# Altium footprint library MODULE.PCBLIB: 102 footprints (part 7 of 7)
Each footprint in its own frame and in the unit in brackets; x right, y up, seen from the top. Pads: shape width x height; smd on the part's side, far side on the other; paste and mask are expansions set on the pad; w line width, h text height; cw(c..) or ccw(c..) is an arc to the next point about the centre after c.
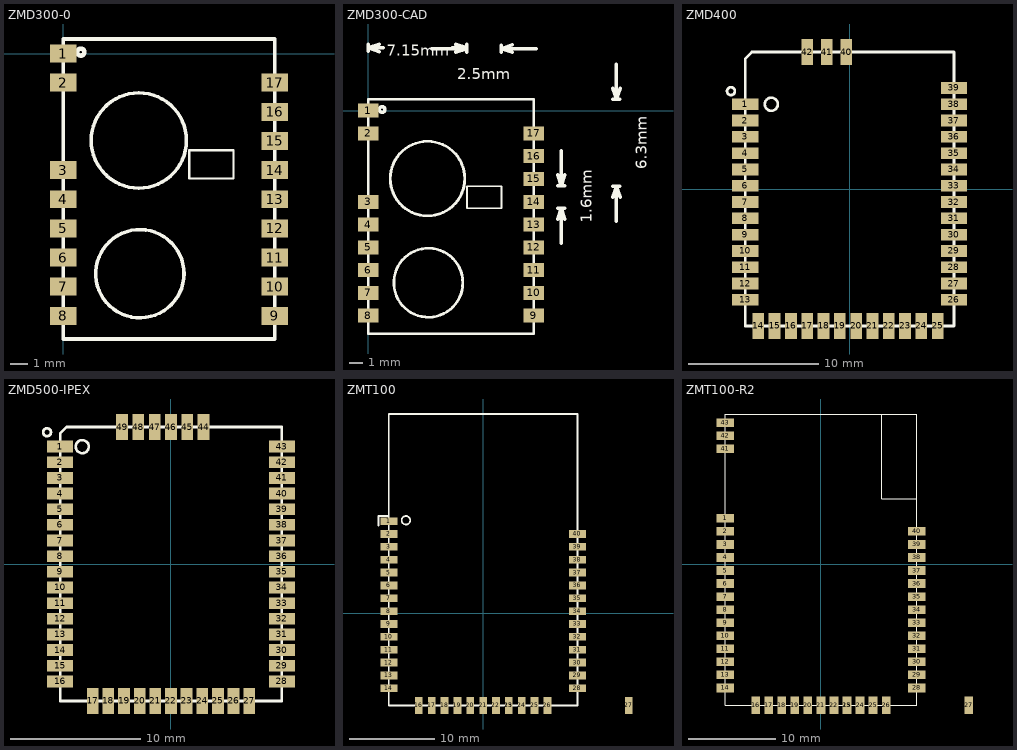
[diagram p6: the footprints below, top view; thin cyan lines are the x and y axes]

## ZMD300-0 [mil]
pads (17):
  rect 59.06x40 smd mask+4: 1(0,0) 2(0,-65) 3(0,-260) 4(0,-325) 5(0,-390) 6(0,-455) 7(0,-520) 8(0,-585) 9(472.44,-585) 10(472.44,-520) 11(472.44,-455) 12(472.44,-390) 13(472.44,-325) 14(472.44,-260) 15(472.44,-195) 16(472.44,-130) 17(472.44,-65)
TopOverlay:
  circle w7.87: c168.9,-193.88 r106.3
  circle w7.87: c171.26,-491.12 r98.43
  circle w10: c39.37,3.29 r7.87
  lines w5: 281.5,-278.52 379.92,-278.52 ; 281.5,-278.52 281.5,-215.53 ; 281.5,-278.52 379.92,-278.52 ; 281.5,-278.52 281.5,-215.53 ; 281.5,-215.53 379.92,-215.53 ; 281.5,-215.53 379.92,-215.53 ; 379.92,-278.52 379.92,-215.53 ; 379.92,-278.52 379.92,-215.53
  lines w7.87: 0,-636.79 0,32.5 472.44,32.5 472.44,-636.79 0,-636.79

## ZMD300-CAD [mil]
pads (17):
  rect 59.06x40 smd mask+4: 1(0,0) 2(0,-65) 3(0,-260) 4(0,-325) 5(0,-390) 6(0,-455) 7(0,-520) 8(0,-585) 9(472.44,-585) 10(472.44,-520) 11(472.44,-455) 12(472.44,-390) 13(472.44,-325) 14(472.44,-260) 15(472.44,-195) 16(472.44,-130) 17(472.44,-65)
TopOverlay:
  circle w10: c39.37,3.29 r7.87
  circle w7.87: c171.26,-491.12 r98.43
  circle w7.87: c168.9,-193.88 r106.3
  lines w5: 281.5,-278.52 281.5,-215.53 379.92,-215.53 379.92,-278.52 281.5,-278.52
  lines w7.87: 0,-636.79 472.44,-636.79 472.44,32.5 0,32.5 0,-636.79
  lines w10: 0,169.13 0,189.13 ; 31.5,168.64 0,179.13 ; 31.5,189.63 0,179.13 ; 42.28,179.13 0,179.13 ; 181.5,177.17 281.5,177.17 ; 239.22,179.13 281.5,179.13 ; 250,166.67 281.5,177.17 ; 250,168.64 281.5,179.13 ; 250,187.66 281.5,177.17 ; 250,189.63 281.5,179.13 ; 281.5,167.17 281.5,187.17 ; 281.5,169.13 281.5,189.13 ; 379.92,167.17 379.92,187.17 ; 411.42,166.67 379.92,177.17 ; 411.42,187.66 379.92,177.17 ; 479.92,177.17 379.92,177.17 ; 540.29,-309.45 550.79,-277.95 ; 540.29,-183.46 550.79,-214.96 ; 540.79,-277.95 560.79,-277.95 ; 540.79,-214.96 560.79,-214.96 ; 550.79,-377.95 550.79,-277.95 ; 550.79,-114.96 550.79,-214.96 ; 561.29,-309.45 550.79,-277.95 ; 561.29,-183.46 550.79,-214.96 ; 697.77,-247.03 708.27,-215.53 ; 697.77,64 708.27,32.5 ; 698.27,-215.53 718.27,-215.53 ; 698.27,32.5 718.27,32.5 ; 708.27,-315.53 708.27,-215.53 ; 708.27,132.5 708.27,32.5 ; 718.77,-247.03 708.27,-215.53 ; 718.77,64 708.27,32.5
  text "6.3mm" at 795.25,-167.62 h31.5
  text "1.6mm" at 637.77,-320.08 h31.5
  text "7.15mm" at 52.28,157.39 h31.5
  text "2.5mm" at 253.78,90.19 h31.5

## ZMD400 [mm]
pads (42):
  rect 2x0.9 smd mask+0.102: 1(-8,6.5) 2(-8,5.25) 3(-8,4) 4(-8,2.75) 5(-8,1.5) 6(-8,0.25) 7(-8,-1) 8(-8,-2.25) 9(-8,-3.5) 10(-8,-4.75) 11(-8,-6) 12(-8,-7.25) 13(-8,-8.5) 26(8,-8.5) 27(8,-7.25) 28(8,-6) 29(8,-4.75) 30(8,-3.5) 31(8,-2.25) 32(8,-1) 33(8,0.25) 34(8,1.5) 35(8,2.75) 36(8,4) 37(8,5.25) 38(8,6.5) 39(8,7.75)
  rect 0.9x2 smd mask+0.102: 14(-7,-10.5) 15(-5.75,-10.5) 16(-4.5,-10.5) 17(-3.25,-10.5) 18(-2,-10.5) 19(-0.75,-10.5) 20(0.5,-10.5) 21(1.75,-10.5) 22(3,-10.5) 23(4.25,-10.5) 24(5.5,-10.5) 25(6.75,-10.5) 40(-0.25,10.5) 41(-1.75,10.5) 42(-3.25,10.5)
TopOverlay:
  circle w0.2: c-6,6.5 r0.5
  circle w0.2: c-9.1,7.5 r0.3
  lines w0.2: -8,-10.5 8,-10.5 8,10.5 -7.5,10.5 -8,10 -8,-10.5

## ZMD500-IPEX [mm]
pads (49):
  rect 2x0.9 smd mask+0.102: 1(-8.5,9) 2(-8.5,7.8) 3(-8.5,6.6) 4(-8.5,5.4) 5(-8.5,4.2) 6(-8.5,3) 7(-8.5,1.8) 8(-8.5,0.6) 9(-8.5,-0.6) 10(-8.5,-1.8) 11(-8.5,-3) 12(-8.5,-4.2) 13(-8.5,-5.4) 14(-8.5,-6.6) 15(-8.5,-7.8) 16(-8.5,-9) 28(8.5,-9) 29(8.5,-7.8) 30(8.5,-6.6) 31(8.5,-5.4) 32(8.5,-4.2) 33(8.5,-3) 34(8.5,-1.8) 35(8.5,-0.6) 36(8.5,0.6) 37(8.5,1.8) 38(8.5,3) 39(8.5,4.2) 40(8.5,5.4) 41(8.5,6.6) 42(8.5,7.8) 43(8.5,9)
  rect 0.9x2 smd mask+0.102: 17(-6,-10.5) 18(-4.8,-10.5) 19(-3.6,-10.5) 20(-2.4,-10.5) 21(-1.2,-10.5) 22(0,-10.5) 23(1.2,-10.5) 24(2.4,-10.5) 25(3.6,-10.5) 26(4.8,-10.5) 27(6,-10.5) 44(2.5,10.5) 45(1.25,10.5) 46(0,10.5) 47(-1.25,10.5) 48(-2.5,10.5) 49(-3.75,10.5)
TopOverlay:
  circle w0.2: c-9.5,10.1 r0.3
  circle w0.2: c-6.8,9 r0.5
  lines w0.2: -8.5,-10.5 8.5,-10.5 8.5,10.5 -8,10.5 -8.5,10 -8.5,-10.5

## ZMT100 [mm]
pads (40):
  rect 2x0.9 smd mask+0.102: 1(-11,10.75) 2(-11,9.25) 3(-11,7.75) 4(-11,6.25) 5(-11,4.75) 6(-11,3.25) 7(-11,1.75) 8(-11,0.25) 9(-11,-1.25) 10(-11,-2.75) 11(-11,-4.25) 12(-11,-5.75) 13(-11,-7.25) 14(-11,-8.75) 28(11,-8.75) 29(11,-7.25) 30(11,-5.75) 31(11,-4.25) 32(11,-2.75) 33(11,-1.25) 34(11,0.25) 35(11,1.75) 36(11,3.25) 37(11,4.75) 38(11,6.25) 39(11,7.75) 40(11,9.25)
  rect 0.9x2 smd mask+0.102: 15(3,-10.75) 16(-7.5,-10.75) 17(-6,-10.75) 18(-4.5,-10.75) 19(-3,-10.75) 20(-1.5,-10.75) 21(0,-10.75) 22(1.5,-10.75) 23(3,-10.75) 24(4.5,-10.75) 25(6,-10.75) 26(7.5,-10.75) 27(17,-10.75)
TopOverlay:
  circle w0.2: c-9,10.85 r0.5
  lines w0.2: -12.2,10.25 -12.2,11.35 -11,11.35 ; -11,-10.75 11,-10.75 11,23.25 -11,23.25 -11,-10.75

## ZMT100-R2 [mm]
pads (43):
  rect 2x1 smd mask+0.102: 1(-11,5.25) 2(-11,3.75) 3(-11,2.25) 4(-11,0.75) 5(-11,-0.75) 6(-11,-2.25) 7(-11,-3.75) 8(-11,-5.25) 9(-11,-6.75) 10(-11,-8.25) 11(-11,-9.75) 12(-11,-11.25) 13(-11,-12.75) 14(-11,-14.25) 28(11,-14.25) 29(11,-12.75) 30(11,-11.25) 31(11,-9.75) 32(11,-8.25) 33(11,-6.75) 34(11,-5.25) 35(11,-3.75) 36(11,-2.25) 37(11,-0.75) 38(11,0.75) 39(11,2.25) 40(11,3.75) 41(-11,13.25) 42(-11,14.75) 43(-11,16.25)
  rect 1x2 smd mask+0.102: 15(3,-16.25) 16(-7.5,-16.25) 17(-6,-16.25) 18(-4.5,-16.25) 19(-3,-16.25) 20(-1.5,-16.25) 21(0,-16.25) 22(1.5,-16.25) 23(3,-16.25) 24(4.5,-16.25) 25(6,-16.25) 26(7.5,-16.25) 27(17,-16.25)
TopOverlay:
  lines w0.127: 7,17.25 7,7.5 11,7.5 ; -11,-16.25 11,-16.25 11,17.25 -11,17.25 -11,-16.25